# Altium schematic symbol library HT4928S.SchLib: 1 symbol
Pins are listed as number, name and electrical type; pins without a type are passive.

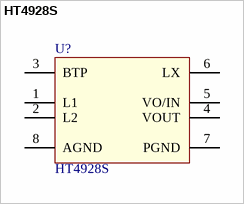
[diagram p0: symbol HT4928S]

## HT4928S
designator U?
Mobile power / supply Management chip, built-in charge / management module, LED indicator Block, boost / discharge management module; Value: HT4928S
footprint SO-8_N (8-Pin Small Outline Integrated Circuit 1.27 mm Pitch, IPC Medium Density)
pins: 1 L1, 2 L2, 3 BTP, 4 VOUT, 5 VO/IN, 6 LX, 7 PGND (power), 8 AGND (power)